# Altium schematic symbol library LTST-C190GKT.SchLib: 1 symbol
Pins are listed as number, name and electrical type; pins without a type are passive.

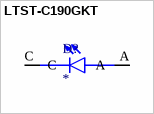
[diagram p0: symbol LTST-C190GKT]

## LTST-C190GKT
designator D?
Green 1.6 x 0.8 x 0.8 mm 130Â° Water Clear 6 mcd 2.1 V SMT LED; MP: LTST-C190GKT; Value: *; Price: None; Package: None; Availability: Unavailable
footprint LEDM1608X80
pins: A, C